# EAGLE library part SMART_DISPLAY (library SKAARHOJ)
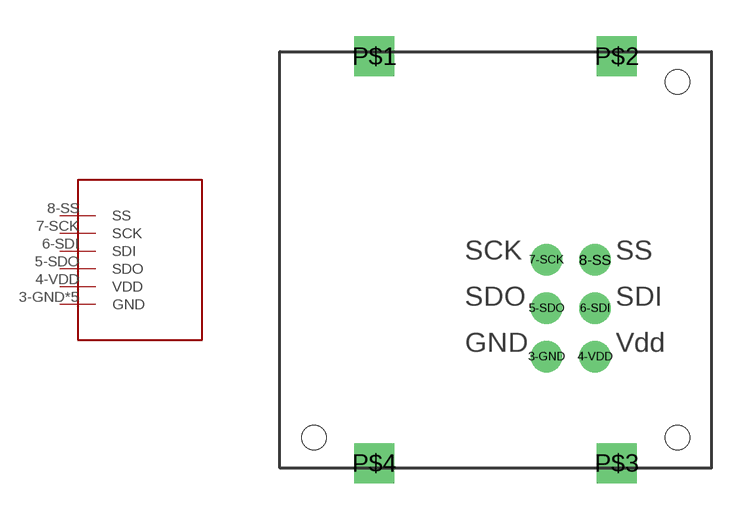
[diagram p39: symbol with the pads of SMART_DISPLAY; footprint SMART_DISPLAY]

Designator prefix -

## SMART_DISPLAY  [SMART_DISPLAY]
3-GND  GND
4-VDD  VDD
5-SDO  SDO
6-SDI  SDI
7-SCK  SCK
8-SS  SS
P$1  GND
P$2  GND
P$3  GND
P$4  GND

## Footprint SMART_DISPLAY (pad centres in mm)
drill 0.8: 3-GND 2.1,-4; 4-VDD 4.1,-4; 5-SDO 2.1,-2; 6-SDI 4.1,-2; 7-SCK 2.1,0; 8-SS 4.1,0
drill 1.1 square: P$1 -5,8.4; P$2 5,8.4; P$3 5,-8.4; P$4 -5,-8.4
hole 1 at 7.5,7.35
hole 1 at 7.5,-7.35
hole 1 at -7.5,-7.35